# Altium footprint library B3F-1022.PcbLib: 1 footprints
Each footprint in its own frame and in the unit in brackets; x right, y up, seen from the top. Pads: shape width x height; smd on the part's side, far side on the other; paste and mask are expansions set on the pad; w line width, h text height; cw(c..) or ccw(c..) is an arc to the next point about the centre after c.
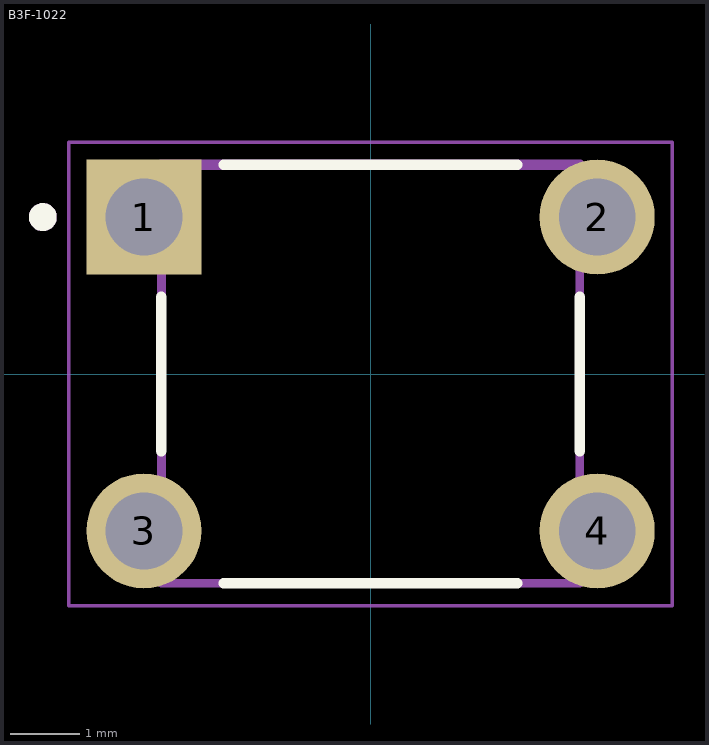
[diagram p0: the footprint, top view; thin cyan lines are the x and y axes]

## B3F-1022 [mm]
pads (4):
  rect 1.65x1.65 hole 1.1: 1(-3.25,2.25)
  round 1.65 hole 1.1: 2(3.25,2.25) 3(-3.25,-2.25) 4(3.25,-2.25)
Top Overlay:
  circle w0.2: c-4.7,2.25 r0.1
  lines w0.152: -3,-1.105 -3,1.105 ; -2.105,-3 2.105,-3 ; -2.105,3 2.105,3 ; 3,-1.105 3,1.105
Mechanical 13:
  circle w0.2: c-4.7,2.25 r0.1
  lines w0.127: -3,3 -3,-3 3,-3 3,3
  lines w0.152: -3,3 3,3
Mechanical 15:
  lines w0.05: -4.325,-3.325 4.325,-3.325 4.325,3.325 -4.325,3.325 -4.325,-3.325
3D body "step_temp.STEP": height 5.2, standoff -3.5, extent -3.85,-3 3.849,3